# EAGLE library part MICROCONTROLLER_BOARD (library BlockDiagramBlocks)
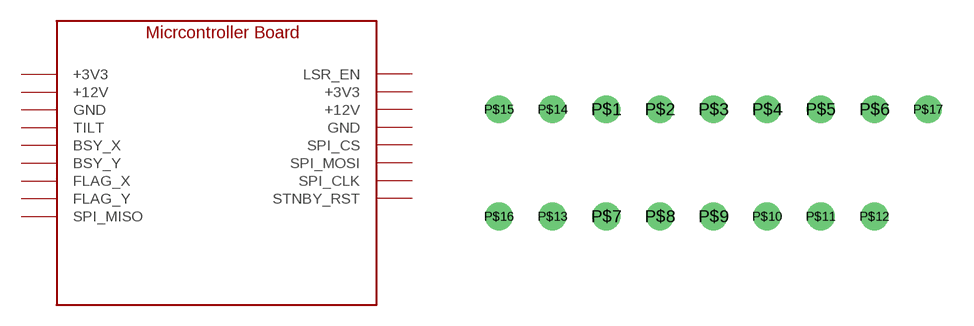
[diagram p0: symbol with the pads of MICROCONTROLLER_BOARD; footprint MICROCONTROLLER_BOARD]

Designator prefix -

## MICROCONTROLLER_BOARD  [MICROCONTROLLER_BOARD]
P$1  +3V3  in
P$2  +3V3
P$3  +12V  in
P$4  +12V  out
P$5  BSY_X
P$6  BSY_Y
P$7  FLAG_X
P$8  FLAG_Y
P$9  GND  in
P$10  GND  in
P$11  LSR_EN  out
P$12  SPI_CLK
P$13  SPI_CS
P$14  SPI_MISO
P$15  SPI_MOSI
P$16  STNBY_RST
P$17  TILT  in

## Footprint MICROCONTROLLER_BOARD (pad centres in mm)
drill 0.8: P$1 -5.08,2.54; P$2 -2.54,2.54; P$3 0,2.54; P$4 2.54,2.54; P$5 5.08,2.54; P$6 7.62,2.54; P$7 -5.08,-2.54; P$8 -2.54,-2.54; P$9 0,-2.54; P$10 2.54,-2.54; P$11 5.08,-2.54; P$12 7.62,-2.54; P$13 -7.62,-2.54; P$14 -7.62,2.54; P$15 -10.16,2.54; P$16 -10.16,-2.54; P$17 10.16,2.54